# EAGLE library part R_ARRAY (library jqi_passives)
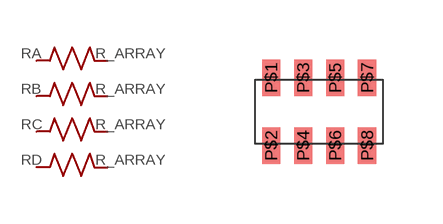
[diagram p0: symbol with the pads of 742_ARRAY; footprint 742_ARRAY]

Designator prefix R; gates A=R_SMD B=R_SMD C=R_SMD D=R_SMD

## R_ARRAY  [742_ARRAY]
P$1  A:1  pas
P$2  A:2  pas
P$3  B:1  pas
P$4  B:2  pas
P$5  C:1  pas
P$6  C:2  pas
P$7  D:1  pas
P$8  D:2  pas

## Footprint 742_ARRAY (pad centres in mm)
742 series resistor array from CTC: http://www.ctscorp.com/components/Datasheets/008-0335-0.pdf
smd 0.45 x 0.9: P$1 0,0.85; P$2 0,-0.85; P$3 0.8,0.85; P$4 0.8,-0.85; P$5 1.6,0.85; P$6 1.6,-0.85; P$7 2.4,0.85; P$8 2.4,-0.85